# Altium schematic symbol library Microchip.SchLib: 16 symbols
Pins are listed as number, name and electrical type; pins without a type are passive.

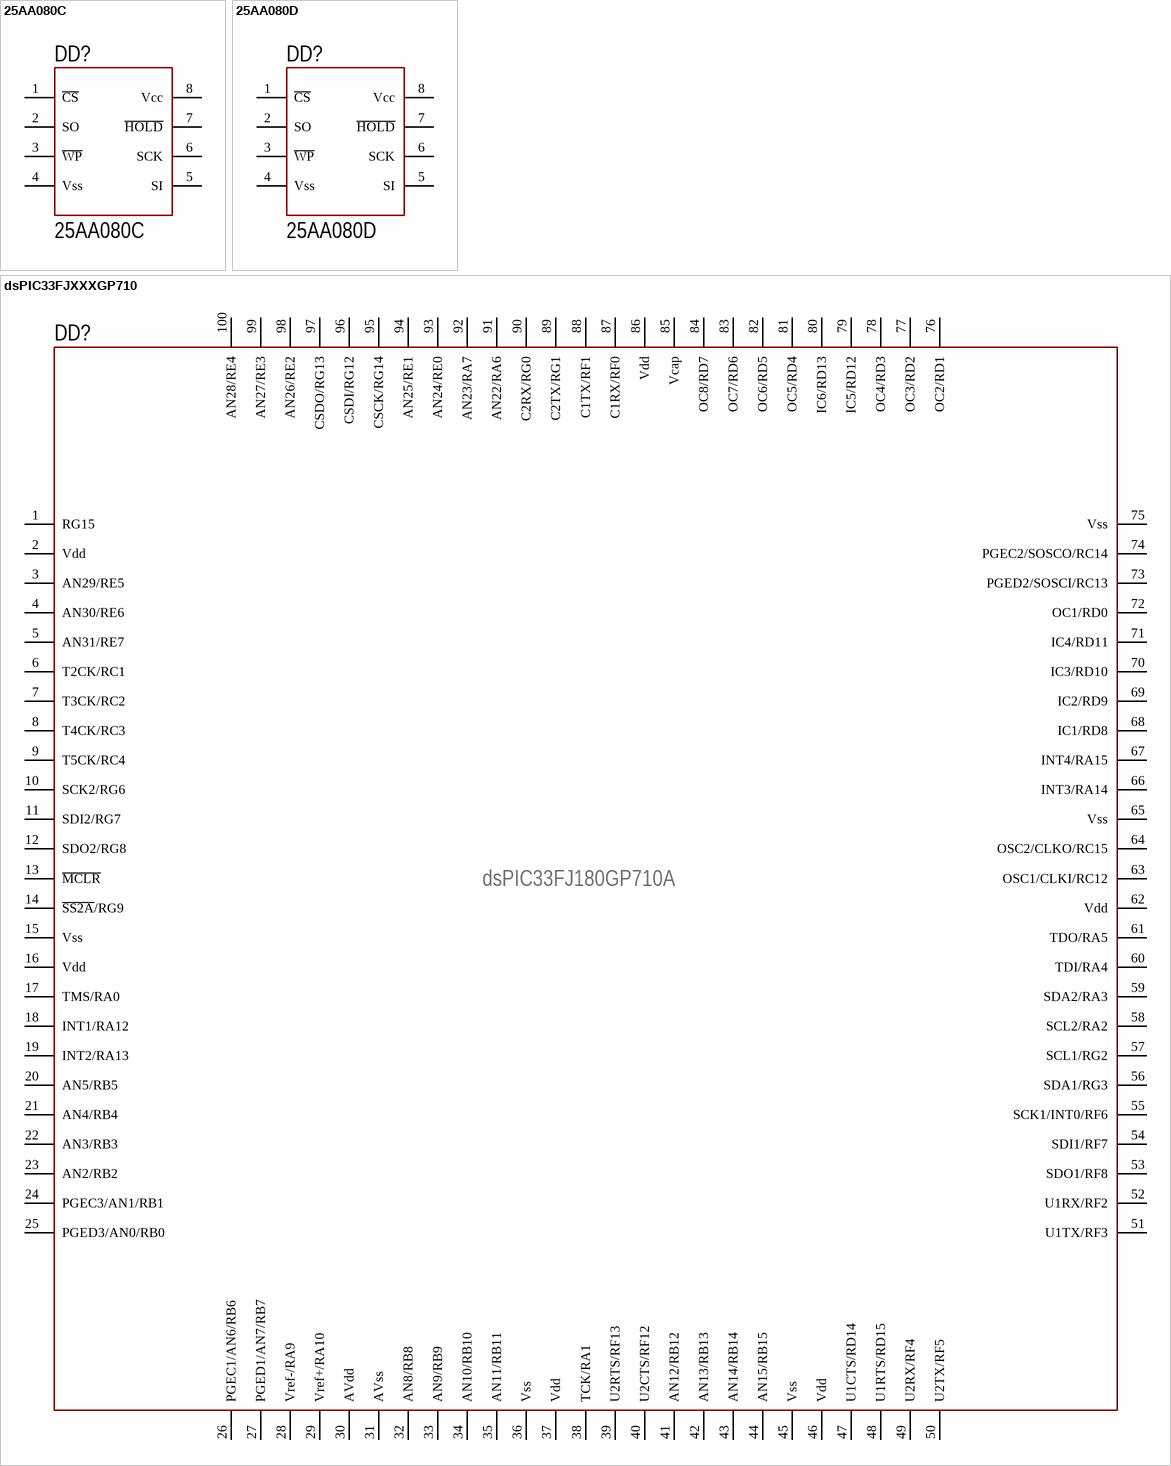
[diagram p0: symbols 25AA080C to dsPIC33FJXXXGP710]

## 25AA080C
designator DD?, comment Part: 25AA080C  (hidden comment: 25AA080C-I/SN)
8 Kbit, 1.8V, 16 Byte Page SPI Serial EEPROM; Case: I/SN
footprint SOIC-8 (pitch 1.27 mm)
pins: 1 ~{CS}, 2 SO, 3 ~{WP}, 4 Vss, 5 SI, 6 SCK, 7 ~{HOLD}, 8 Vcc

## 25AA080D
designator DD?, comment Part: 25AA080D  (hidden comment: 25AA080D-I/SN)
8 Kbit, 1.8V, 32 Byte Page SPI Serial EEPROM
footprint SOIC-8 (pitch 1.27 mm)
pins: 1 ~{CS}, 2 SO, 3 ~{WP}, 4 Vss, 5 SI, 6 SCK, 7 ~{HOLD}, 8 Vcc

## dsPIC33FJXXXGP710
designator DD?, comment Part: dsPIC33FJ180GP710A  (hidden comment: dsPIC33FJ180GP710AI/PF)
MCU 16Bit, 128 to 256 KB Flash, 40MIPs; Case: I/PF
footprint TQFP-100
pins: 1 RG15, 2 Vdd, 3 AN29/RE5, 4 AN30/RE6, 5 AN31/RE7, 6 T2CK/RC1, 7 T3CK/RC2, 8 T4CK/RC3, 9 T5CK/RC4, 10 SCK2/RG6, 11 SDI2/RG7, 12 SDO2/RG8, 13 ~{MCLR}, 14 ~{SS2A}/RG9, 15 Vss, 16 Vdd, 17 TMS/RA0, 18 INT1/RA12, 19 INT2/RA13, 20 AN5/RB5, 21 AN4/RB4, 22 AN3/RB3, 23 AN2/RB2, 24 PGEC3/AN1/RB1, 25 PGED3/AN0/RB0, 26 PGEC1/AN6/RB6, 27 PGED1/AN7/RB7, 28 Vref-/RA9, 29 Vref+/RA10, 30 AVdd, 31 AVss, 32 AN8/RB8, 33 AN9/RB9, 34 AN10/RB10, 35 AN11/RB11, 36 Vss, 37 Vdd, 38 TCK/RA1, 39 U2RTS/RF13, 40 U2CTS/RF12, 41 AN12/RB12, 42 AN13/RB13, 43 AN14/RB14, 44 AN15/RB15, 45 Vss, 46 Vdd, 47 U1CTS/RD14, 48 U1RTS/RD15, 49 U2RX/RF4, 50 U2TX/RF5, 51 U1TX/RF3, 52 U1RX/RF2, 53 SDO1/RF8, 54 SDI1/RF7, 55 SCK1/INT0/RF6, 56 SDA1/RG3, 57 SCL1/RG2, 58 SCL2/RA2, 59 SDA2/RA3, 60 TDI/RA4, 61 TDO/RA5, 62 Vdd, 63 OSC1/CLKI/RC12, 64 OSC2/CLKO/RC15, 65 Vss, 66 INT3/RA14, 67 INT4/RA15, 68 IC1/RD8, 69 IC2/RD9, 70 IC3/RD10, 71 IC4/RD11, 72 OC1/RD0, 73 PGED2/SOSCI/RC13, 74 PGEC2/SOSCO/RC14, 75 Vss, 76 OC2/RD1, 77 OC3/RD2, 78 OC4/RD3, 79 IC5/RD12, 80 IC6/RD13, 81 OC5/RD4, 82 OC6/RD5, 83 OC7/RD6, 84 OC8/RD7, 85 Vcap, 86 Vdd, 87 C1RX/RF0, 88 C1TX/RF1, 89 C2TX/RG1, 90 C2RX/RG0, 91 AN22/RA6, 92 AN23/RA7, 93 AN24/RE0, 94 AN25/RE1, 95 CSCK/RG14, 96 CSDI/RG12, 97 CSDO/RG13, 98 AN26/RE2, 99 AN27/RE3, 100 AN28/RE4

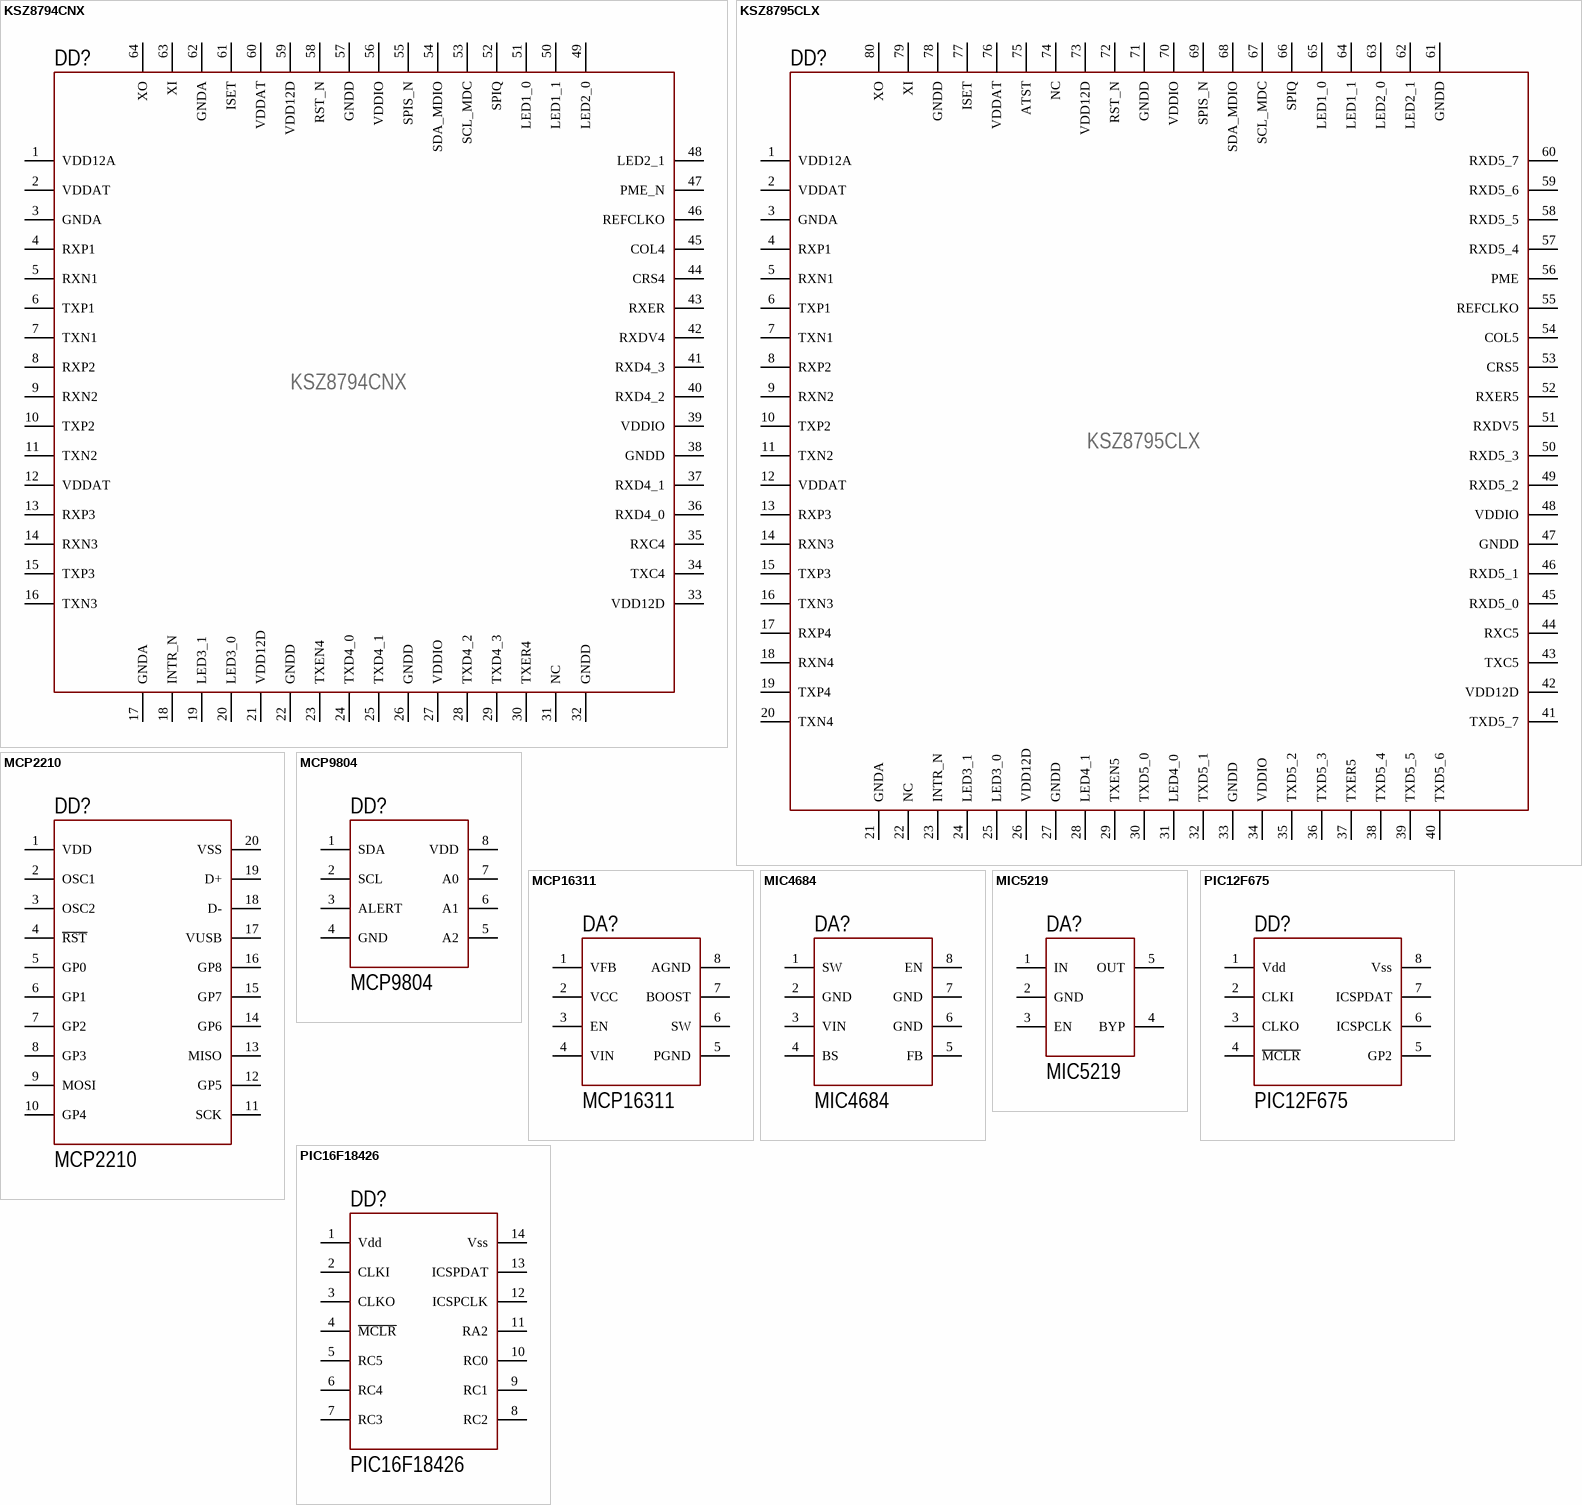
[diagram p1: symbols KSZ8794CNX to PIC16F18426]

## KSZ8794CNX
designator DD?, comment Part: KSZ8794CNX  (hidden comment: KSZ8794CNXIC)
4-Port 10/100 Managed Ethernet Switch with Gigabit Uplink
footprint QFN-64 (QFN, 64-Leads, Body 8,00x8,00mm, Pitch 0,40mm, Thermal Pad 4,20x4,20mm, IPC Medium Density)
pins: 0 hidden to GND, 1 VDD12A (power), 2 VDDAT (power), 3 GNDA (power), 4 RXP1, 5 RXN1, 6 TXP1, 7 TXN1, 8 RXP2, 9 RXN2, 10 TXP2, 11 TXN2, 12 VDDAT (power), 13 RXP3, 14 RXN3, 15 TXP3, 16 TXN3, 17 GNDA (power), 18 INTR_N, 19 LED3_1, 20 LED3_0, 21 VDD12D (power), 22 GNDD (power), 23 TXEN4, 24 TXD4_0, 25 TXD4_1, 26 GNDD (power), 27 VDDIO (power), 28 TXD4_2, 29 TXD4_3, 30 TXER4, 31 NC, 32 GNDD (power), 33 VDD12D (power), 34 TXC4, 35 RXC4, 36 RXD4_0, 37 RXD4_1, 38 GNDD (power), 39 VDDIO (power), 40 RXD4_2, 41 RXD4_3, 42 RXDV4, 43 RXER, 44 CRS4, 45 COL4, 46 REFCLKO, 47 PME_N, 48 LED2_1, 49 LED2_0, 50 LED1_1, 51 LED1_0, 52 SPIQ, 53 SCL_MDC, 54 SDA_MDIO, 55 SPIS_N, 56 VDDIO (power), 57 GNDD (power), 58 RST_N, 59 VDD12D (power), 60 VDDAT (power), 61 ISET, 62 GNDA (power), 63 XI, 64 XO

## KSZ8795CLX
designator DD?, comment Part: KSZ8795CLX  (hidden comment: KSZ8795CLXIC)
5-Port 10/100 Managed Ethernet Switch with Gigabit Uplink
footprint LQFP-80 (LQFP, 80-Leads, Body 10.00x10.00mm, Pitch 0.40mm, IPC Medium Density)
pins: 1 VDD12A (power), 2 VDDAT (power), 3 GNDA, 4 RXP1, 5 RXN1, 6 TXP1, 7 TXN1, 8 RXP2, 9 RXN2, 10 TXP2, 11 TXN2, 12 VDDAT (power), 13 RXP3, 14 RXN3, 15 TXP3, 16 TXN3, 17 RXP4, 18 RXN4, 19 TXP4, 20 TXN4, 21 GNDA (power), 22 NC, 23 INTR_N, 24 LED3_1, 25 LED3_0, 26 VDD12D (power), 27 GNDD (power), 28 LED4_1, 29 TXEN5, 30 TXD5_0, 31 LED4_0, 32 TXD5_1, 33 GNDD (power), 34 VDDIO (power), 35 TXD5_2, 36 TXD5_3, 37 TXER5, 38 TXD5_4, 39 TXD5_5, 40 TXD5_6, 41 TXD5_7, 42 VDD12D (power), 43 TXC5, 44 RXC5, 45 RXD5_0, 46 RXD5_1, 47 GNDD (power), 48 VDDIO (power), 49 RXD5_2, 50 RXD5_3, 51 RXDV5, 52 RXER5, 53 CRS5, 54 COL5, 55 REFCLKO, 56 PME, 57 RXD5_4, 58 RXD5_5, 59 RXD5_6, 60 RXD5_7, 61 GNDD (power), 62 LED2_1, 63 LED2_0, 64 LED1_1, 65 LED1_0, 66 SPIQ, 67 SCL_MDC, 68 SDA_MDIO, 69 SPIS_N, 70 VDDIO (power), 71 GNDD (power), 72 RST_N, 73 VDD12D (power), 74 NC, 75 ATST, 76 VDDAT (power), 77 ISET, 78 GNDD (power), 79 XI, 80 XO

## MCP2210
designator DD?, comment Part: MCP2210  (hidden comment: MCP2210-I/SS)
USB to SPI Converter with GPIO (Master Mode)
footprint SSOP-20 (SSOP, 20-Leads, Body 7,20x5,30mm, Pitch 0,65mm, IPC Medium Density)
pins: 1 VDD (power), 2 OSC1, 3 OSC2, 4 ~{RST}, 5 GP0, 6 GP1, 7 GP2, 8 GP3, 9 MOSI, 10 GP4, 11 SCK, 12 GP5, 13 MISO, 14 GP6, 15 GP7, 16 GP8, 17 VUSB (power), 18 D-, 19 D+, 20 VSS (power)

## MCP9804
designator DD?, comment Part: MCP9804  (hidden comment: MCP9804-E/MS)
Temperature sensor, -40°C ~ 125°C; Case: E/MS
footprint MSOP-8 (pitch 0.65 mm)
pins: 1 SDA, 2 SCL, 3 ALERT, 4 GND, 5 A2, 6 A1, 7 A0, 8 VDD

## MCP16311
designator DA?, comment Part: MCP16311  (hidden comment: MCP16311-E/MS)
30V/1A PFM/PWM Synchronous Buck Regulator
footprint MSOP-8 (pitch 0.65 mm)
pins: 1 VFB (power), 2 VCC (power), 3 EN, 4 VIN (power), 5 PGND (power), 6 SW (power), 7 BOOST (power), 8 AGND (power)

## MIC4684
designator DA?, comment Part: MIC4684  (hidden comment: MIC4684YM)
200kHz 2A SuperSwitcher™ Buck Regulator
footprint SOIC-8 (pitch 1.27 mm)
pins: 1 SW (power), 2 GND (power), 3 VIN (power), 4 BS (power), 5 FB (power), 6 GND (power), 7 GND (power), 8 EN

## MIC5219
designator DA?, comment Part: MIC5219  (hidden comment: MIC5219-*YM5)
500mA Peak Output LDO; Voltage: -*
footprint SOT23-5 (pitch 0.95 mm)
pins: 1 IN (power), 2 GND (power), 3 EN, 4 BYP, 5 OUT (power)

## PIC12F675
designator DD?, comment Part: PIC12F675  (hidden comment: PIC12F675-I/SN)
MCU 8Bit, 1.75KB Flash, 20MHz; Case: I/SN
footprint SOIC-8 (pitch 1.27 mm)
pins: 1 Vdd (power), 2 CLKI, 3 CLKO, 4 ~{MCLR}, 5 GP2, 6 ICSPCLK, 7 ICSPDAT, 8 Vss (power)

## PIC16F18426
designator DD?, comment Part: PIC16F18426  (hidden comment: PIC16F18426-I/SL)
MCU 8Bit, 28KB Flash, 32MHz; Case: I/SL
footprint SOIC-14 (SOIC, 14-Leads, Body 8.65x3.90mm, Pitch 1.27mm, IPC Medium Density)
pins: 1 Vdd, 2 CLKI, 3 CLKO, 4 ~{MCLR}, 5 RC5, 6 RC4, 7 RC3, 8 RC2, 9 RC1, 10 RC0, 11 RA2, 12 ICSPCLK, 13 ICSPDAT, 14 Vss

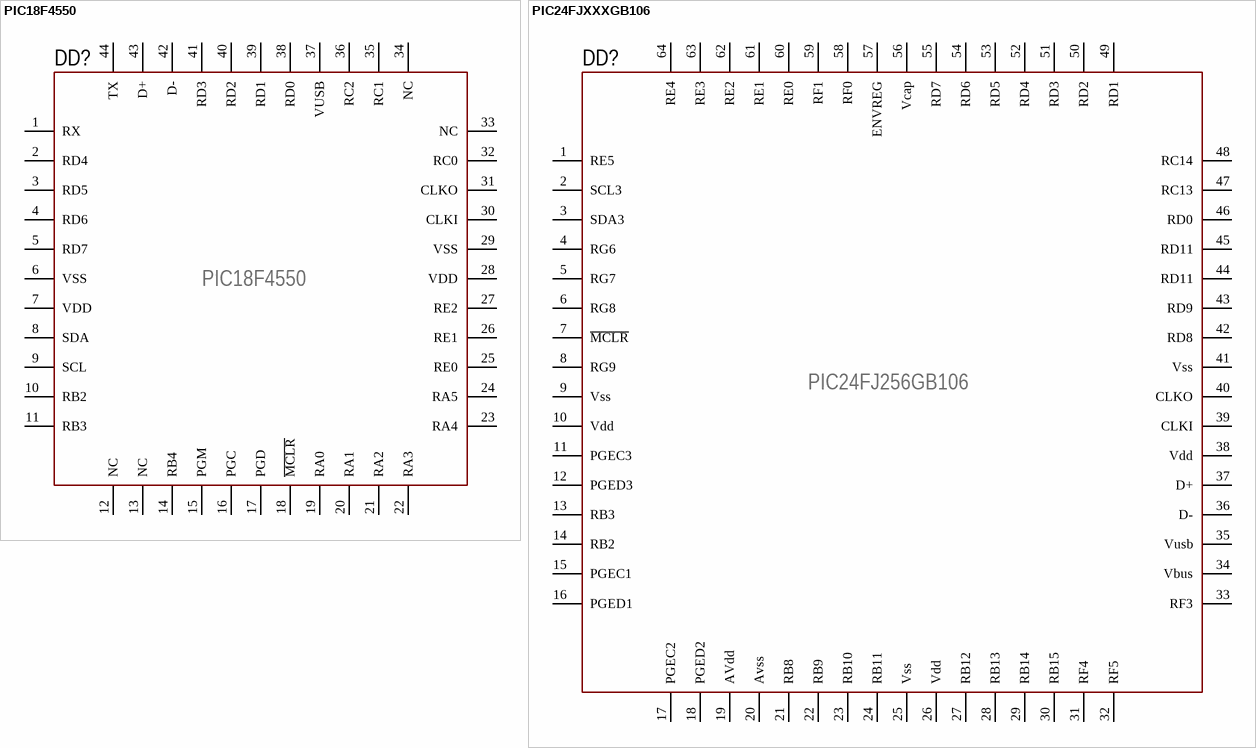
[diagram p2: symbols PIC18F4550 to PIC24FJXXXGB106]

## PIC18F4550
designator DD?, comment Part: PIC18F4550  (hidden comment: PIC18F4550-I/PT)
MCU 8Bit, 32KB Flash, 48MHz; Case: I/PT
footprint TQFP-44 (TQFP, 44-Leads, Body 10.00x10.00mm, Pitch 0.80mm, IPC Medium Density)
pins: 1 RX, 2 RD4, 3 RD5, 4 RD6, 5 RD7, 6 VSS, 7 VDD, 8 SDA, 9 SCL, 10 RB2, 11 RB3, 12 NC, 13 NC, 14 RB4, 15 PGM, 16 PGC, 17 PGD, 18 ~{MCLR}, 19 RA0, 20 RA1, 21 RA2, 22 RA3, 23 RA4, 24 RA5, 25 RE0, 26 RE1, 27 RE2, 28 VDD, 29 VSS, 30 CLKI, 31 CLKO, 32 RC0, 33 NC, 34 NC, 35 RC1, 36 RC2, 37 VUSB, 38 RD0, 39 RD1, 40 RD2, 41 RD3, 42 D-, 43 D+, 44 TX

## PIC24FJXXXGB106
designator DD?, comment Part: PIC24FJ256GB106  (hidden comment: PIC24FJ256GB106-I/PT)
MCU 16Bit, 64KB to 256KB Flash, 32MHz; Case: I/PT
footprint TQFP-64
pins: 1 RE5, 2 SCL3, 3 SDA3, 4 RG6, 5 RG7, 6 RG8, 7 ~{MCLR}, 8 RG9, 9 Vss, 10 Vdd, 11 PGEC3, 12 PGED3, 13 RB3, 14 RB2, 15 PGEC1, 16 PGED1, 17 PGEC2, 18 PGED2, 19 AVdd, 20 Avss, 21 RB8, 22 RB9, 23 RB10, 24 RB11, 25 Vss, 26 Vdd, 27 RB12, 28 RB13, 29 RB14, 30 RB15, 31 RF4, 32 RF5, 33 RF3, 34 Vbus, 35 Vusb, 36 D-, 37 D+, 38 Vdd, 39 CLKI, 40 CLKO, 41 Vss, 42 RD8, 43 RD9, 44 RD11, 45 RD11, 46 RD0, 47 RC13, 48 RC14, 49 RD1, 50 RD2, 51 RD3, 52 RD4, 53 RD5, 54 RD6, 55 RD7, 56 Vcap, 57 ENVREG, 58 RF0, 59 RF1, 60 RE0, 61 RE1, 62 RE2, 63 RE3, 64 RE4

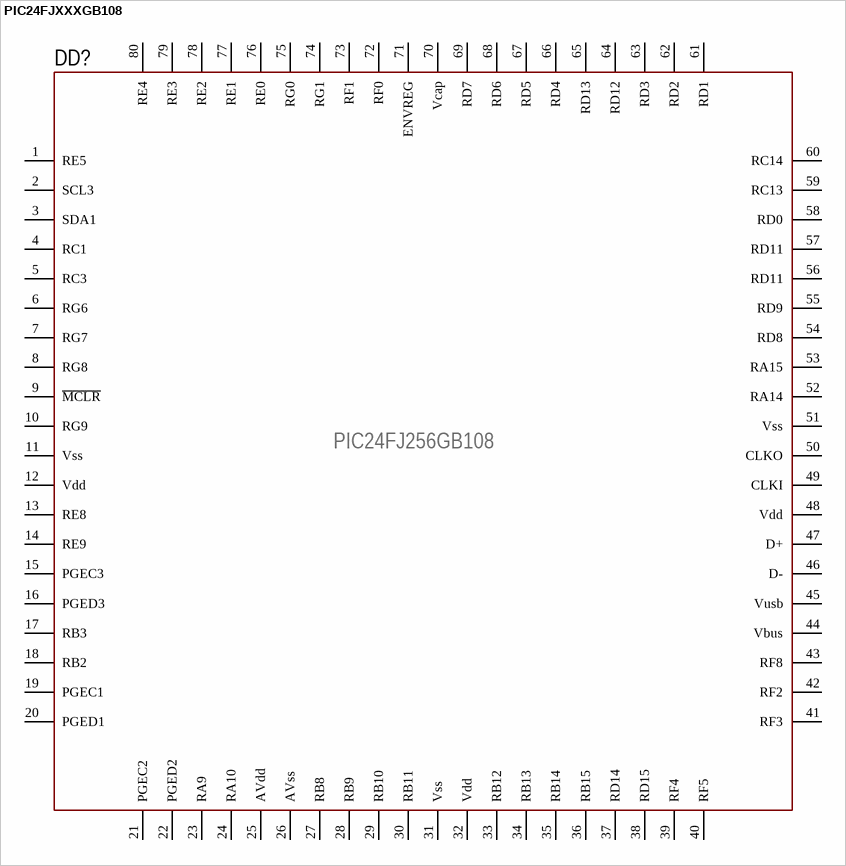
[diagram p3: symbol PIC24FJXXXGB108]

## PIC24FJXXXGB108
designator DD?, comment Part: PIC24FJ256GB108  (hidden comment: PIC24FJ256GB108-I/PT)
MCU 16Bit, 64KB to 256KB Flash, 32MHz; Case: I/PT
footprint TQFP-80 (TSQFP, 80-Leads, Body 12,00x12,00mm, Pitch 0,50mm, IPC Medium Density)
pins: 1 RE5, 2 SCL3, 3 SDA1, 4 RC1, 5 RC3, 6 RG6, 7 RG7, 8 RG8, 9 ~{MCLR}, 10 RG9, 11 Vss, 12 Vdd, 13 RE8, 14 RE9, 15 PGEC3, 16 PGED3, 17 RB3, 18 RB2, 19 PGEC1, 20 PGED1, 21 PGEC2, 22 PGED2, 23 RA9, 24 RA10, 25 AVdd, 26 AVss, 27 RB8, 28 RB9, 29 RB10, 30 RB11, 31 Vss, 32 Vdd, 33 RB12, 34 RB13, 35 RB14, 36 RB15, 37 RD14, 38 RD15, 39 RF4, 40 RF5, 41 RF3, 42 RF2, 43 RF8, 44 Vbus, 45 Vusb, 46 D-, 47 D+, 48 Vdd, 49 CLKI, 50 CLKO, 51 Vss, 52 RA14, 53 RA15, 54 RD8, 55 RD9, 56 RD11, 57 RD11, 58 RD0, 59 RC13, 60 RC14, 61 RD1, 62 RD2, 63 RD3, 64 RD12, 65 RD13, 66 RD4, 67 RD5, 68 RD6, 69 RD7, 70 Vcap, 71 ENVREG, 72 RF0, 73 RF1, 74 RG1, 75 RG0, 76 RE0, 77 RE1, 78 RE2, 79 RE3, 80 RE4

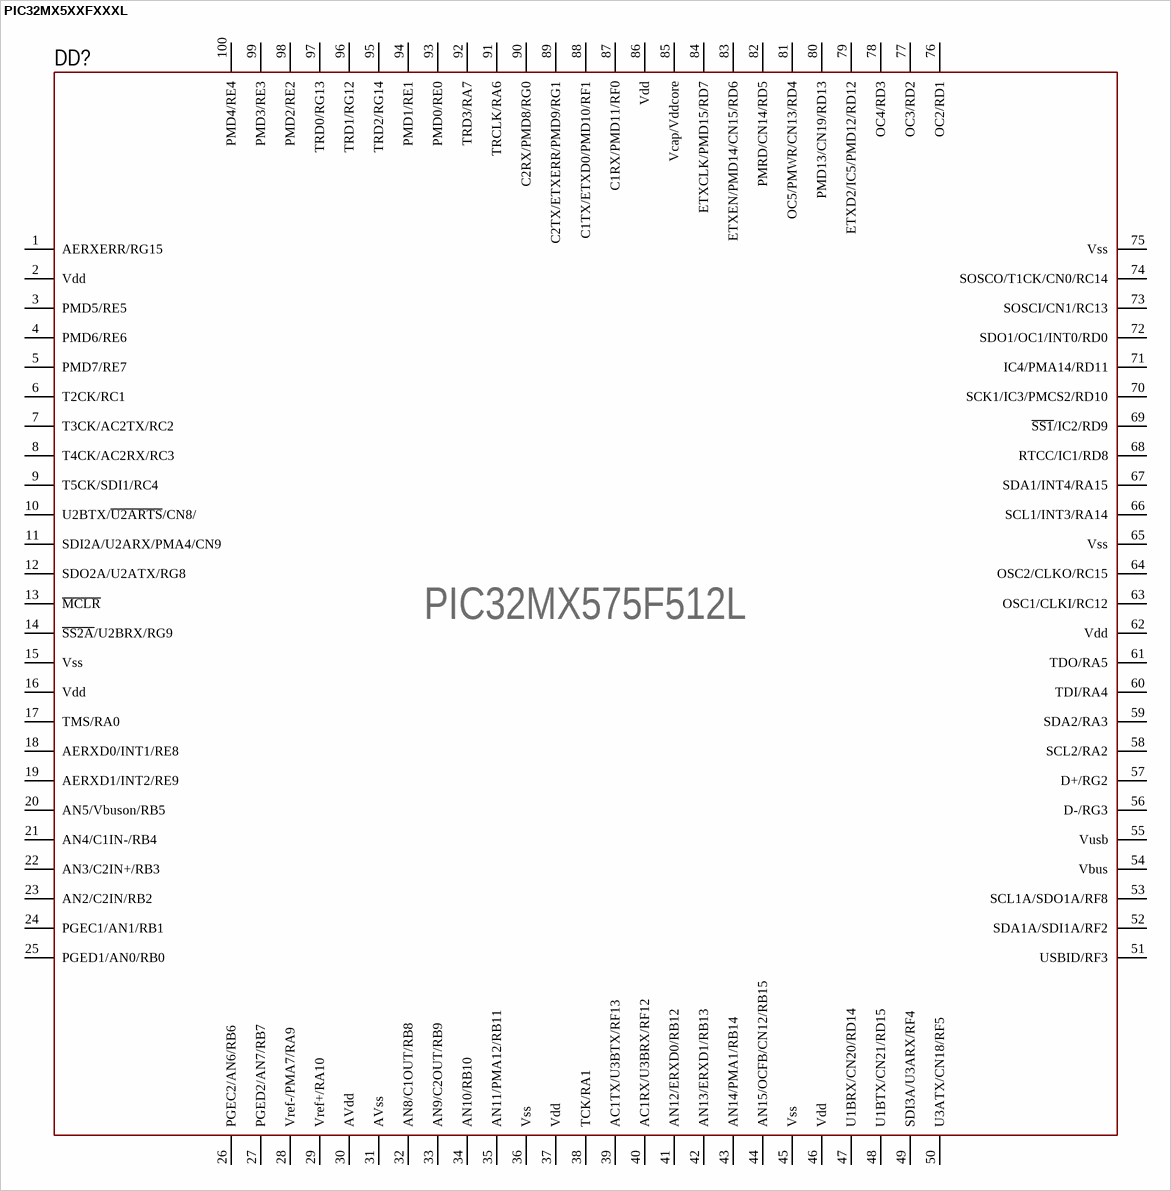
[diagram p4: symbol PIC32MX5XXFXXXL]

## PIC32MX5XXFXXXL
designator DD?  Part: PIC32MX575F512L
32-bit Microcontrollers (up to 512 KB Flash and 128 KB SRAM) with Graphics Interface, USB, CAN; Code: 75; Mem: 512; Speed: 80; Family: PIC32MX5; Case: I/PT
footprint TQFP-100
pins: 1 AERXERR/RG15, 2 Vdd, 3 PMD5/RE5, 4 PMD6/RE6, 5 PMD7/RE7, 6 T2CK/RC1, 7 T3CK/AC2TX/RC2, 8 T4CK/AC2RX/RC3, 9 T5CK/SDI1/RC4, 10 U2BTX/~{U2ARTS}/CN8/, 11 SDI2A/U2ARX/PMA4/CN9, 12 SDO2A/U2ATX/RG8, 13 ~{MCLR}, 14 ~{SS2A}/U2BRX/RG9, 15 Vss, 16 Vdd, 17 TMS/RA0, 18 AERXD0/INT1/RE8, 19 AERXD1/INT2/RE9, 20 AN5/Vbuson/RB5, 21 AN4/C1IN-/RB4, 22 AN3/C2IN+/RB3, 23 AN2/C2IN/RB2, 24 PGEC1/AN1/RB1, 25 PGED1/AN0/RB0, 26 PGEC2/AN6/RB6, 27 PGED2/AN7/RB7, 28 Vref-/PMA7/RA9, 29 Vref+/RA10, 30 AVdd, 31 AVss, 32 AN8/C1OUT/RB8, 33 AN9/C2OUT/RB9, 34 AN10/RB10, 35 AN11/PMA12/RB11, 36 Vss, 37 Vdd, 38 TCK/RA1, 39 AC1TX/U3BTX/RF13, 40 AC1RX/U3BRX/RF12, 41 AN12/ERXD0/RB12, 42 AN13/ERXD1/RB13, 43 AN14/PMA1/RB14, 44 AN15/OCFB/CN12/RB15, 45 Vss, 46 Vdd, 47 U1BRX/CN20/RD14, 48 U1BTX/CN21/RD15, 49 SDI3A/U3ARX/RF4, 50 U3ATX/CN18/RF5, 51 USBID/RF3, 52 SDA1A/SDI1A/RF2, 53 SCL1A/SDO1A/RF8, 54 Vbus, 55 Vusb, 56 D-/RG3, 57 D+/RG2, 58 SCL2/RA2, 59 SDA2/RA3, 60 TDI/RA4, 61 TDO/RA5, 62 Vdd, 63 OSC1/CLKI/RC12, 64 OSC2/CLKO/RC15, 65 Vss, 66 SCL1/INT3/RA14, 67 SDA1/INT4/RA15, 68 RTCC/IC1/RD8, 69 ~{SS1}/IC2/RD9, 70 SCK1/IC3/PMCS2/RD10, 71 IC4/PMA14/RD11, 72 SDO1/OC1/INT0/RD0, 73 SOSCI/CN1/RC13, 74 SOSCO/T1CK/CN0/RC14, 75 Vss, 76 OC2/RD1, 77 OC3/RD2, 78 OC4/RD3, 79 ETXD2/IC5/PMD12/RD12, 80 PMD13/CN19/RD13, 81 OC5/PMWR/CN13/RD4, 82 PMRD/CN14/RD5, 83 ETXEN/PMD14/CN15/RD6, 84 ETXCLK/PMD15/RD7, 85 Vcap/Vddcore, 86 Vdd, 87 C1RX/PMD11/RF0, 88 C1TX/ETXD0/PMD10/RF1, 89 C2TX/ETXERR/PMD9/RG1, 90 C2RX/PMD8/RG0, 91 TRCLK/RA6, 92 TRD3/RA7, 93 PMD0/RE0, 94 PMD1/RE1, 95 TRD2/RG14, 96 TRD1/RG12, 97 TRD0/RG13, 98 PMD2/RE2, 99 PMD3/RE3, 100 PMD4/RE4